# Altium integrated library Diode - Rectifier.IntLib: 777 symbols (part 6 of 12)
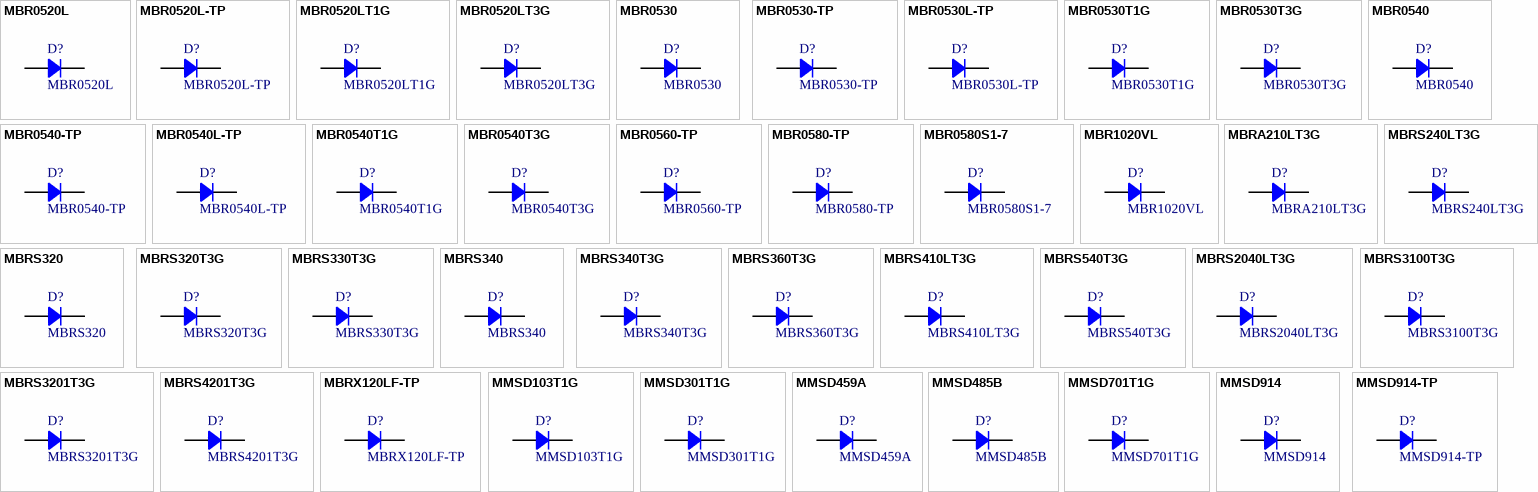
[diagram p24: symbols MBR0520L to MMSD914-TP]

## MBR0520LT1G
designator D?
DIODE SCHOTTKY 20V 500MA SOD123; Manufacturer: ON Semiconductor; Current Reverse Leakage @ Vr: 250uA @ 20V; Voltage Forward (Vf): 385mV @ 500mA; Part Number: MBR0520LT1G; PartId: 29341; Supplier 1: Digi-Key; Supplier Part Number 1: MBR0520LT1GOSCT-ND; ComponentLink1Description: Datasheet; ComponentLink1URL: http://www.onsemi.com/pub_link/Collateral/MBR0520LT1-D.PDF; ComponentLink2Description: Digi-Key Listing; ComponentLink2URL: https://www.digikey.com/product-detail/en/on-semiconductor/MBR0520LT1G/MBR0520LT1GOSCT-ND/917965; Junction Operating Temperature: -65C ~ 125C; Price: 0.33; Type: Schottky; Device Package: SOD-123; Voltage DC Reverse (Vr): 20V; Current Rectified: 500mA
footprint SOD-123
pins: 1, 2

## MBR0520LT3G
designator D?
DIODE SCHOTTKY 20V 500MA SOD123; Manufacturer: ON Semiconductor; Current Reverse Leakage @ Vr: 250uA @ 20V; Voltage Forward (Vf): 385mV @ 500mA; Part Number: MBR0520LT3G; PartId: 29364; Supplier 1: Digi-Key; Supplier Part Number 1: MBR0520LT3GOSCT-ND; ComponentLink1Description: Datasheet; ComponentLink1URL: http://www.onsemi.com/pub_link/Collateral/MBR0520LT1-D.PDF; ComponentLink2Description: Digi-Key Listing; ComponentLink2URL: https://www.digikey.com/product-detail/en/on-semiconductor/MBR0520LT3G/MBR0520LT3GOSCT-ND/2705022; Junction Operating Temperature: -65C ~ 125C; Price: 0.33; Type: Schottky; Device Package: SOD-123; Voltage DC Reverse (Vr): 20V; Current Rectified: 500mA
footprint SOD-123
pins: 1, 2

## MBR0530
designator D?
DIODE SCHOTTKY 30V 500MA SOD123; Manufacturer: Fairchild Semiconductor; Type: Surface Mount; Current Reverse Leakage @ Vr: 130uA @ 30V; Voltage Forward (Vf): 430mV @ 500mA; Part Number: MBR0530; PartId: 7121; Supplier 1: Digi-Key; Supplier Part Number 1: MBR0530TR-ND; ComponentLink1Description: Datasheet; ComponentLink1URL: http://www.fairchildsemi.com/datasheets/MB/MBR0530.pdf; ComponentLink2Description: Digi-Key Listing; ComponentLink2URL: http://www.digikey.ca/product-detail/en/MBR0530/MBR0530TR-ND/1048783; Junction Operating Temperature: -65C ~ 125C; Price: 0.0818; Device Package: SOD-123; Reverse Recovery Time (trr): -; Voltage DC Reverse (Vr): 30V; Current Rectified: 500mA
footprint SOD123F
pins: 1, 2

## MBR0530-TP
designator D?
DIODE SCHOTTKY 30V 500MA SOD123; Manufacturer: Micro Commercial Co; Current Reverse Leakage @ Vr: 200uA @ 30V; Voltage Forward (Vf): 550mV @ 500mA; Part Number: MBR0530-TP; PartId: 29376; Supplier 1: Digi-Key; Supplier Part Number 1: MBR0530TPMSCT-ND; ComponentLink1Description: Datasheet; ComponentLink1URL: http://www.mccsemi.com/up_pdf/MBR0520~MBR0580(SOD123).pdf; ComponentLink2Description: Digi-Key Listing; ComponentLink2URL: https://www.digikey.com/product-detail/en/micro-commercial-co/MBR0530-TP/MBR0530TPMSCT-ND/717366; Junction Operating Temperature: -65C ~ 125C; Price: 0.39; Type: Schottky; Device Package: SOD-123; Voltage DC Reverse (Vr): 30V; Current Rectified: 500mA
footprint SOD-123
pins: 1, 2

## MBR0530L-TP
designator D?
DIODE SCHOTTKY 30V 500MA SOD123; Manufacturer: Micro Commercial Co; Current Reverse Leakage @ Vr: 130uA @ 30V; Voltage Forward (Vf): 430mV @ 500mA; Part Number: MBR0530L-TP; PartId: 29379; Supplier 1: Digi-Key; Supplier Part Number 1: MBR0530L-TPMSCT-ND; ComponentLink1Description: Datasheet; ComponentLink1URL: http://www.mccsemi.com/up_pdf/MBR0520L~MBR0540L(SOD-123).pdf; ComponentLink2Description: Digi-Key Listing; ComponentLink2URL: https://www.digikey.com/product-detail/en/micro-commercial-co/MBR0530L-TP/MBR0530L-TPMSCT-ND/3191634; Junction Operating Temperature: -65C ~ 125C; Price: 0.39; Type: Schottky; Device Package: SOD-123; Voltage DC Reverse (Vr): 30V; Current Rectified: 500mA
footprint SOD-123
pins: 1, 2

## MBR0530T1G
designator D?
DIODE SCHOTTKY 30V 500MA SOD123; Manufacturer: ON Semiconductor; Current Reverse Leakage @ Vr: 130uA @ 30V; Voltage Forward (Vf): 430mV @ 500mA; Part Number: MBR0530T1G; PartId: 29347; Supplier 1: Digi-Key; Supplier Part Number 1: MBR0530T1GOSCT-ND; ComponentLink1Description: Datasheet; ComponentLink1URL: http://www.onsemi.com/pub_link/Collateral/MBR0530T1-D.PDF; ComponentLink2Description: Digi-Key Listing; ComponentLink2URL: https://www.digikey.com/product-detail/en/on-semiconductor/MBR0530T1G/MBR0530T1GOSCT-ND/917966; Junction Operating Temperature: -65C ~ 125C; Price: 0.36; Type: Schottky; Device Package: SOD-123; Voltage DC Reverse (Vr): 30V; Current Rectified: 500mA
footprint SOD-123
pins: 1, 2

## MBR0530T3G
designator D?
DIODE SCHOTTKY 30V 500MA SOD123; Manufacturer: ON Semiconductor; Current Reverse Leakage @ Vr: 130uA @ 30V; Voltage Forward (Vf): 430mV @ 500mA; Part Number: MBR0530T3G; PartId: 29423; Supplier 1: Digi-Key; Supplier Part Number 1: MBR0530T3GOSCT-ND; ComponentLink1Description: Datasheet; ComponentLink1URL: http://www.onsemi.com/pub_link/Collateral/MBR0530T1-D.PDF; ComponentLink2Description: Digi-Key Listing; ComponentLink2URL: https://www.digikey.com/product-detail/en/on-semiconductor/MBR0530T3G/MBR0530T3GOSCT-ND/2705023; Junction Operating Temperature: -65C ~ 125C; Price: 0.36; Type: Schottky; Device Package: SOD-123; Voltage DC Reverse (Vr): 30V; Current Rectified: 500mA
footprint SOD-123
pins: 1, 2

## MBR0540
designator D?
DIODE SCHOTTKY 40V 500MA SOD123; Manufacturer: Fairchild/ON Semiconductor; Current Reverse Leakage @ Vr: 20uA @ 40V; Voltage Forward (Vf): 510mV @ 500mA; Part Number: MBR0540; PartId: 29345; Supplier 1: Digi-Key; Supplier Part Number 1: MBR0540CT-ND; ComponentLink1Description: Datasheet; ComponentLink1URL: https://www.fairchildsemi.com/datasheets/MB/MBR0540.pdf; ComponentLink2Description: Digi-Key Listing; ComponentLink2URL: https://www.digikey.com/product-detail/en/fairchild-on-semiconductor/MBR0540/MBR0540CT-ND/3042807; Junction Operating Temperature: -65C ~ 125C; Price: 0.34; Type: Schottky; Device Package: SOD-123; Voltage DC Reverse (Vr): 40V; Current Rectified: 500mA
footprint SOD-123
pins: 1, 2

## MBR0540-TP
designator D?
DIODE SCHOTTKY 40V 500MA SOD123; Manufacturer: Micro Commercial Co; Current Reverse Leakage @ Vr: 200uA @ 40V; Voltage Forward (Vf): 550mV @ 500mA; Part Number: MBR0540-TP; PartId: 29434; Supplier 1: Digi-Key; Supplier Part Number 1: MBR0540TPMSCT-ND; ComponentLink1Description: Datasheet; ComponentLink1URL: http://www.mccsemi.com/up_pdf/MBR0520~MBR0580(SOD123).pdf; ComponentLink2Description: Digi-Key Listing; ComponentLink2URL: https://www.digikey.com/product-detail/en/micro-commercial-co/MBR0540-TP/MBR0540TPMSCT-ND/717367; Junction Operating Temperature: -55C ~ 150C; Price: 0.39; Type: Schottky; Device Package: SOD-123; Voltage DC Reverse (Vr): 40V; Current Rectified: 500mA
footprint SOD-123
pins: 1, 2

## MBR0540L-TP
designator D?
DIODE SCHOTTKY 40V 500MA SOD123; Manufacturer: Micro Commercial Co; Current Reverse Leakage @ Vr: 20uA @ 40V; Voltage Forward (Vf): 510mV @ 500mA; Part Number: MBR0540L-TP; PartId: 29382; Supplier 1: Digi-Key; Supplier Part Number 1: MBR0540L-TPMSCT-ND; ComponentLink1Description: Datasheet; ComponentLink1URL: http://www.mccsemi.com/up_pdf/MBR0520L~MBR0540L(SOD-123).pdf; ComponentLink2Description: Digi-Key Listing; ComponentLink2URL: https://www.digikey.com/product-detail/en/micro-commercial-co/MBR0540L-TP/MBR0540L-TPMSCT-ND/3191635; Junction Operating Temperature: -65C ~ 125C; Price: 0.39; Type: Schottky; Device Package: SOD-123; Voltage DC Reverse (Vr): 40V; Current Rectified: 500mA
footprint SOD-123
pins: 1, 2

## MBR0540T1G
designator D?
DIODE SCHOTTKY 40V 500MA SOD123; Manufacturer: ON Semiconductor; Current Reverse Leakage @ Vr: 20uA @ 40V; Voltage Forward (Vf): 510mV @ 500mA; Part Number: MBR0540T1G; PartId: 29346; Supplier 1: Digi-Key; Supplier Part Number 1: MBR0540T1GOSCT-ND; ComponentLink1Description: Datasheet; ComponentLink1URL: http://www.onsemi.com/pub_link/Collateral/MBR0540T1-D.PDF; ComponentLink2Description: Digi-Key Listing; ComponentLink2URL: https://www.digikey.com/product-detail/en/on-semiconductor/MBR0540T1G/MBR0540T1GOSCT-ND/917967; Junction Operating Temperature: -55C ~ 150C; Price: 0.36; Type: Schottky; Device Package: SOD-123; Voltage DC Reverse (Vr): 40V; Current Rectified: 500mA
footprint SOD-123
pins: 1, 2

## MBR0540T3G
designator D?
DIODE SCHOTTKY 40V 500MA SOD123; Manufacturer: ON Semiconductor; Current Reverse Leakage @ Vr: 20uA @ 40V; Voltage Forward (Vf): 510mV @ 500mA; Part Number: MBR0540T3G; PartId: 29369; Supplier 1: Digi-Key; Supplier Part Number 1: MBR0540T3GOSCT-ND; ComponentLink1Description: Datasheet; ComponentLink1URL: http://www.onsemi.com/pub_link/Collateral/MBR0540T1-D.PDF; ComponentLink2Description: Digi-Key Listing; ComponentLink2URL: https://www.digikey.com/product-detail/en/on-semiconductor/MBR0540T3G/MBR0540T3GOSCT-ND/2705024; Junction Operating Temperature: -55C ~ 150C; Price: 0.36; Type: Schottky; Device Package: SOD-123; Voltage DC Reverse (Vr): 40V; Current Rectified: 500mA
footprint SOD-123
pins: 1, 2

## MBR0560-TP
designator D?
DIODE SCHOTTKY 60V 500MA SOD123; Manufacturer: Micro Commercial Co; Current Reverse Leakage @ Vr: 200uA @ 60V; Voltage Forward (Vf): 700mV @ 500mA; Part Number: MBR0560-TP; PartId: 29344; Supplier 1: Digi-Key; Supplier Part Number 1: MBR0560TPMSCT-ND; ComponentLink1Description: Datasheet; ComponentLink1URL: http://www.mccsemi.com/up_pdf/MBR0520~MBR0580(SOD123).pdf; ComponentLink2Description: Digi-Key Listing; ComponentLink2URL: https://www.digikey.com/product-detail/en/micro-commercial-co/MBR0560-TP/MBR0560TPMSCT-ND/717368; Junction Operating Temperature: -55C ~ 150C; Price: 0.39; Type: Schottky; Device Package: SOD-123; Voltage DC Reverse (Vr): 60V; Current Rectified: 500mA
footprint SOD-123
pins: 1, 2

## MBR0580-TP
designator D?
DIODE SCHOTTKY 80V 500MA SOD123; Manufacturer: Micro Commercial Co; Current Reverse Leakage @ Vr: 200uA @ 80V; Voltage Forward (Vf): 800mV @ 500mA; Part Number: MBR0580-TP; PartId: 29378; Supplier 1: Digi-Key; Supplier Part Number 1: MBR0580-TPMSCT-ND; ComponentLink1Description: Datasheet; ComponentLink1URL: http://www.mccsemi.com/up_pdf/MBR0520~MBR0580(SOD123).pdf; ComponentLink2Description: Digi-Key Listing; ComponentLink2URL: https://www.digikey.com/product-detail/en/micro-commercial-co/MBR0580-TP/MBR0580-TPMSCT-ND/2423306; Junction Operating Temperature: -55C ~ 150C; Price: 0.39; Type: Schottky; Device Package: SOD-123; Voltage DC Reverse (Vr): 80V; Current Rectified: 500mA
footprint SOD-123
pins: 1, 2

## MBR0580S1-7
designator D?
DIODE SCHOTTKY 80V 500MA SOD123; Manufacturer: Diodes Incorporated; Current Reverse Leakage @ Vr: 5uA @ 80V; Voltage Forward (Vf): 800mV @ 500mA; Part Number: MBR0580S1-7; PartId: 14595; Supplier 1: Digi-Key; Supplier Part Number 1: MBR0580S1-7DITR-ND; ComponentLink1Description: Datasheet; ComponentLink1URL: http://diodes.com/_files/datasheets/MBR0580S1.pdf; ComponentLink2Description: Digi-Key Listing; ComponentLink2URL: https://www.digikey.com/product-detail/en/diodes-incorporated/MBR0580S1-7/MBR0580S1-7DITR-ND/5080335; Junction Operating Temperature: -55C ~ 175C; Price: 0.0483; Type: Schottky; Device Package: SOD-123; Voltage DC Reverse (Vr): 80V; Current Rectified: 500mA
footprint SOD-123
pins: 1, 2

## MBR1020VL
designator D?
DIODE SCHOTTKY 20V 1A SOD123F; Manufacturer: Fairchild/ON Semiconductor; Current Reverse Leakage @ Vr: 600uA @ 20V; Reverse Recovery Time (trr): 12.4ns; Voltage Forward (Vf): 340mV @ 1A; Part Number: MBR1020VL; PartId: 29254; Supplier 1: Digi-Key; Supplier Part Number 1: MBR1020VLCT-ND; ComponentLink1Description: Datasheet; ComponentLink1URL: https://www.fairchildsemi.com/datasheets/MB/MBR1020VL.pdf; ComponentLink2Description: Digi-Key Listing; ComponentLink2URL: https://www.digikey.com/product-detail/en/fairchild-on-semiconductor/MBR1020VL/MBR1020VLCT-ND/5305084; Junction Operating Temperature: -55C ~ 125C; Price: 0.33; Type: Schottky; Device Package: SOD-123F; Voltage DC Reverse (Vr): 20V; Current Rectified: 1A
footprint SOD123F
pins: 1, 2

## MBRA210LT3G
designator D?
DIODE SCHOTTKY 10V 2A SMA; Manufacturer: ON Semiconductor; Type: Surface Mount; Current Reverse Leakage @ Vr: 700uA @ 10V; Voltage Forward (Vf): 350mV @ 2A; Part Number: MBRA210LT3G; PartId: 7126; Supplier 1: Digi-Key; Supplier Part Number 1: MBRA210LT3GOSTR-ND; ComponentLink1Description: Datasheet; ComponentLink1URL: http://www.onsemi.com/pub_link/Collateral/MBRA210LT3-D.PDF; ComponentLink2Description: Digi-Key Listing; ComponentLink2URL: http://www.digikey.ca/product-detail/en/MBRA210LT3G/MBRA210LT3GOSTR-ND/918605; Junction Operating Temperature: -55C ~ 125C; Price: 0.2308; Device Package: DO-214AC, SMA; Reverse Recovery Time (trr): -; Voltage DC Reverse (Vr): 10V; Current Rectified: 2A
footprint DO214AC SMA
pins: 1, 2

## MBRS240LT3G
designator D?
DIODE SCHOTTKY 40V 2A SMB; Manufacturer: ON Semiconductor; Type: Surface Mount; Current Reverse Leakage @ Vr: 2mA @ 40V; Voltage Forward (Vf): 430mV @ 2A; Part Number: MBRS240LT3G; PartId: 7129; Supplier 1: Digi-Key; Supplier Part Number 1: MBRS240LT3GOSTR-ND; ComponentLink1Description: Datasheet; ComponentLink1URL: http://www.onsemi.com/pub_link/Collateral/MBRS240LT3-D.PDF; ComponentLink2Description: Digi-Key Listing; ComponentLink2URL: http://www.digikey.ca/product-detail/en/MBRS240LT3G/MBRS240LT3GOSTR-ND/918641; Junction Operating Temperature: -55C ~ 150C; Price: 0.1708; Device Package: DO-214AA, SMB; Reverse Recovery Time (trr): -; Voltage DC Reverse (Vr): 40V; Current Rectified: 2A
footprint DO214AA SMB
pins: 1, 2

## MBRS320
designator D?
DIODE SCHOTTKY 20V 4A SMC; Manufacturer: Fairchild/ON Semiconductor; Current Reverse Leakage @ Vr: 2mA @ 20V; Voltage Forward (Vf): 500mV @ 3A; Part Number: MBRS320; PartId: 27821; Supplier 1: Digi-Key; Supplier Part Number 1: MBRS320CT-ND; ComponentLink1Description: Datasheet; ComponentLink1URL: https://www.fairchildsemi.com/datasheets/MB/MBRS320.pdf; ComponentLink2Description: Digi-Key Listing; ComponentLink2URL: https://www.digikey.com/product-detail/en/fairchild-on-semiconductor/MBRS320/MBRS320CT-ND/3042646; Junction Operating Temperature: -65C ~ 125C; Price: 0.49; Type: Schottky; Device Package: DO-214AB, SMC; Voltage DC Reverse (Vr): 20V; Current Rectified: 4A
footprint ST DO214AB SMC
pins: 1, 2

## MBRS320T3G
designator D?
DIODE SCHOTTKY 20V 4A SMC; Manufacturer: ON Semiconductor; Current Reverse Leakage @ Vr: 2mA @ 20V; Voltage Forward (Vf): 500mV @ 3A; Part Number: MBRS320T3G; PartId: 27736; Supplier 1: Digi-Key; Supplier Part Number 1: MBRS320T3GOSCT-ND; ComponentLink1Description: Datasheet; ComponentLink1URL: http://www.onsemi.com/pub_link/Collateral/MBRS340T3-D.PDF; ComponentLink2Description: Digi-Key Listing; ComponentLink2URL: https://www.digikey.com/product-detail/en/on-semiconductor/MBRS320T3G/MBRS320T3GOSCT-ND/918007; Junction Operating Temperature: -65C ~ 150C; Price: 0.59; Type: Schottky; Device Package: DO-214AB, SMC; Voltage DC Reverse (Vr): 20V; Current Rectified: 4A
footprint ST DO214AB SMC
pins: 1, 2

## MBRS330T3G
designator D?
DIODE SCHOTTKY 30V 4A SMC; Manufacturer: ON Semiconductor; Current Reverse Leakage @ Vr: 2mA @ 30V; Voltage Forward (Vf): 500mV @ 3A; Part Number: MBRS330T3G; PartId: 27908; Supplier 1: Digi-Key; Supplier Part Number 1: MBRS330T3GOSCT-ND; ComponentLink1Description: Datasheet; ComponentLink1URL: http://www.onsemi.com/pub_link/Collateral/MBRS340T3-D.PDF; ComponentLink2Description: Digi-Key Listing; ComponentLink2URL: https://www.digikey.com/product-detail/en/on-semiconductor/MBRS330T3G/MBRS330T3GOSCT-ND/918008; Junction Operating Temperature: -65C ~ 150C; Price: 0.59; Type: Schottky; Device Package: DO-214AB, SMC; Voltage DC Reverse (Vr): 30V; Current Rectified: 4A
footprint ST DO214AB SMC
pins: 1, 2

## MBRS340
designator D?
DIODE SCHOTTKY 40V 4A SMC; Manufacturer: Fairchild/ON Semiconductor; Current Reverse Leakage @ Vr: 2mA @ 40V; Voltage Forward (Vf): 525mV @ 3A; Part Number: MBRS340; PartId: 27687; Supplier 1: Digi-Key; Supplier Part Number 1: MBRS340FSCT-ND; ComponentLink1Description: Datasheet; ComponentLink1URL: https://www.fairchildsemi.com/datasheets/MB/MBRS340.pdf; ComponentLink2Description: Digi-Key Listing; ComponentLink2URL: https://www.digikey.com/product-detail/en/fairchild-on-semiconductor/MBRS340/MBRS340FSCT-ND/965655; Junction Operating Temperature: -65C ~ 125C; Price: 0.56; Type: Schottky; Device Package: DO-214AB, SMC; Voltage DC Reverse (Vr): 40V; Current Rectified: 4A
footprint ST DO214AB SMC
pins: 1, 2

## MBRS340T3G
designator D?
DIODE SCHOTTKY 40V 4A SMC; Manufacturer: ON Semiconductor; Current Reverse Leakage @ Vr: 2mA @ 40V; Voltage Forward (Vf): 500mV @ 3A; Part Number: MBRS340T3G; PartId: 27683; Supplier 1: Digi-Key; Supplier Part Number 1: MBRS340T3GOSCT-ND; ComponentLink1Description: Datasheet; ComponentLink1URL: http://www.onsemi.com/pub_link/Collateral/MBRS340T3-D.PDF; ComponentLink2Description: Digi-Key Listing; ComponentLink2URL: https://www.digikey.com/product-detail/en/on-semiconductor/MBRS340T3G/MBRS340T3GOSCT-ND/918009; Junction Operating Temperature: -65C ~ 150C; Price: 0.44; Type: Schottky; Device Package: DO-214AB, SMC; Voltage DC Reverse (Vr): 40V; Current Rectified: 4A
footprint ST DO214AB SMC
pins: 1, 2

## MBRS360T3G
designator D?
DIODE SCHOTTKY 60V 3A SMC; Manufacturer: ON Semiconductor; Current Reverse Leakage @ Vr: 150uA @ 60V; Voltage Forward (Vf): 740mV @ 3A; Part Number: MBRS360T3G; PartId: 27828; Supplier 1: Digi-Key; Supplier Part Number 1: MBRS360T3GOSCT-ND; ComponentLink1Description: Datasheet; ComponentLink1URL: http://www.onsemi.com/pub_link/Collateral/MBRS360T3-D.PDF; ComponentLink2Description: Digi-Key Listing; ComponentLink2URL: https://www.digikey.com/product-detail/en/on-semiconductor/MBRS360T3G/MBRS360T3GOSCT-ND/918010; Junction Operating Temperature: -65C ~ 175C; Price: 0.49; Type: Schottky; Device Package: DO-214AB, SMC; Voltage DC Reverse (Vr): 60V; Current Rectified: 3A
footprint ST DO214AB SMC
pins: 1, 2

## MBRS410LT3G
designator D?
DIODE SCHOTTKY 10V 4A SMC; Manufacturer: ON Semiconductor; Type: Surface Mount; Current Reverse Leakage @ Vr: 5mA @ 10V; Voltage Forward (Vf): 330mV @ 4A; Part Number: MBRS410LT3G; PartId: 7125; Supplier 1: Digi-Key; Supplier Part Number 1: MBRS410LT3GOSTR-ND; ComponentLink1Description: Datasheet; ComponentLink1URL: http://www.onsemi.com/pub_link/Collateral/MBRS410LT3-D.PDF; ComponentLink2Description: Digi-Key Listing; ComponentLink2URL: http://www.digikey.ca/product-detail/en/MBRS410LT3G/MBRS410LT3GOSTR-ND/920615; Junction Operating Temperature: -65C ~ 125C; Price: 0.9355; Device Package: DO-214AB, SMC; Reverse Recovery Time (trr): -; Voltage DC Reverse (Vr): 10V; Current Rectified: 4A
footprint DO214AB SMC
pins: 1, 2

## MBRS540T3G
designator D?
DIODE SCHOTTKY 40V 5A SMC; Manufacturer: ON Semiconductor; Current Reverse Leakage @ Vr: 300uA @ 40V; Voltage Forward (Vf): 500mV @ 5A; Part Number: MBRS540T3G; PartId: 27689; Supplier 1: Digi-Key; Supplier Part Number 1: MBRS540T3GOSCT-ND; ComponentLink1Description: Datasheet; ComponentLink1URL: http://www.onsemi.com/pub_link/Collateral/MBRS540T3-D.PDF; ComponentLink2Description: Digi-Key Listing; ComponentLink2URL: https://www.digikey.com/product-detail/en/on-semiconductor/MBRS540T3G/MBRS540T3GOSCT-ND/918011; Junction Operating Temperature: -65C ~ 150C; Price: 0.64; Type: Schottky; Device Package: DO-214AB, SMC; Voltage DC Reverse (Vr): 40V; Current Rectified: 5A
footprint ST DO214AB SMC
pins: 1, 2

## MBRS2040LT3G
designator D?
DIODE SCHOTTKY 40V 2A SMB; Manufacturer: ON Semiconductor; Type: Surface Mount; Current Reverse Leakage @ Vr: 800uA @ 40V; Voltage Forward (Vf): 430mV @ 2A; Part Number: MBRS2040LT3G; PartId: 7130; Supplier 1: Digi-Key; Supplier Part Number 1: MBRS2040LT3GOSTR-ND; ComponentLink1Description: Datasheet; ComponentLink1URL: http://www.onsemi.com/pub_link/Collateral/MBRS2040LT3-D.PDF; ComponentLink2Description: Digi-Key Listing; ComponentLink2URL: http://www.digikey.ca/product-detail/en/MBRS2040LT3G/MBRS2040LT3GOSTR-ND/918640; Junction Operating Temperature: -55C ~ 125C; Price: 0.1708; Device Package: DO-214AA, SMB; Reverse Recovery Time (trr): -; Voltage DC Reverse (Vr): 40V; Current Rectified: 2A
footprint DO214AA SMB
pins: 1, 2

## MBRS3100T3G
designator D?
DIODE SCHOTTKY 100V 3A SMC; Manufacturer: ON Semiconductor; Current Reverse Leakage @ Vr: 50uA @ 100V; Voltage Forward (Vf): 790mV @ 3A; Part Number: MBRS3100T3G; PartId: 27702; Supplier 1: Digi-Key; Supplier Part Number 1: MBRS3100T3GOSCT-ND; ComponentLink1Description: Datasheet; ComponentLink1URL: http://www.onsemi.com/pub_link/Collateral/MBRS3100T3-D.PDF; ComponentLink2Description: Digi-Key Listing; ComponentLink2URL: https://www.digikey.com/product-detail/en/on-semiconductor/MBRS3100T3G/MBRS3100T3GOSCT-ND/918006; Junction Operating Temperature: -65C ~ 175C; Price: 0.74; Type: Schottky; Device Package: DO-214AB, SMC; Voltage DC Reverse (Vr): 100V; Current Rectified: 3A
footprint ST DO214AB SMC
pins: 1, 2

## MBRS3201T3G
designator D?
DIODE SCHOTTKY 200V 3A SMC; Manufacturer: ON Semiconductor; Current Reverse Leakage @ Vr: 1mA @ 200V; Reverse Recovery Time (trr): 35ns; Voltage Forward (Vf): 840mV @ 3A; Part Number: MBRS3201T3G; PartId: 27869; Supplier 1: Digi-Key; Supplier Part Number 1: MBRS3201T3GOSCT-ND; ComponentLink1Description: Datasheet; ComponentLink1URL: http://www.onsemi.com/pub_link/Collateral/MBRS3201T3-D.PDF; ComponentLink2Description: Digi-Key Listing; ComponentLink2URL: https://www.digikey.com/product-detail/en/on-semiconductor/MBRS3201T3G/MBRS3201T3GOSCT-ND/1967072; Junction Operating Temperature: -55C ~ 150C; Price: 0.87; Type: Schottky; Device Package: DO-214AB, SMC; Voltage DC Reverse (Vr): 200V; Current Rectified: 3A
footprint ST DO214AB SMC
pins: 1, 2

## MBRS4201T3G
designator D?
DIODE SCHOTTKY 200V 4A SMC; Manufacturer: ON Semiconductor; Current Reverse Leakage @ Vr: 1mA @ 200V; Reverse Recovery Time (trr): 35ns; Voltage Forward (Vf): 860mV @ 4A; Part Number: MBRS4201T3G; PartId: 27879; Supplier 1: Digi-Key; Supplier Part Number 1: MBRS4201T3GOSCT-ND; ComponentLink1Description: Datasheet; ComponentLink1URL: http://www.onsemi.com/pub_link/Collateral/MBRS4201T3-D.PDF; ComponentLink2Description: Digi-Key Listing; ComponentLink2URL: https://www.digikey.com/product-detail/en/on-semiconductor/MBRS4201T3G/MBRS4201T3GOSCT-ND/1967074; Junction Operating Temperature: -55C ~ 150C; Price: 1.09; Type: Schottky; Device Package: DO-214AB, SMC; Voltage DC Reverse (Vr): 200V; Current Rectified: 4A
footprint ST DO214AB SMC
pins: 1, 2

## MBRX120LF-TP
designator D?
DIODE SCHOTTKY 20V 1A SOD123; Manufacturer: Micro Commercial Co; Current Reverse Leakage @ Vr: 1mA @ 20V; Voltage Forward (Vf): 360mV @ 1A; Part Number: MBRX120LF-TP; PartId: 29350; Supplier 1: Digi-Key; Supplier Part Number 1: MBRX120LF-TPMSCT-ND; ComponentLink1Description: Datasheet; ComponentLink1URL: http://www.mccsemi.com/up_pdf/MBRX120LF(SOD-123).pdf; ComponentLink2Description: Digi-Key Listing; ComponentLink2URL: https://www.digikey.com/product-detail/en/micro-commercial-co/MBRX120LF-TP/MBRX120LF-TPMSCT-ND/2041570; Junction Operating Temperature: -65C ~ 125C; Price: 0.49; Type: Schottky; Device Package: SOD-123; Voltage DC Reverse (Vr): 20V; Current Rectified: 1A
footprint SOD-123
pins: 1, 2

## MMSD103T1G
designator D?
DIODE GEN PURP 250V 200MA SOD123; Manufacturer: ON Semiconductor; Type: Standard; Current Reverse Leakage @ Vr: 1uA @ 200V; Reverse Recovery Time (trr): 50ns; Current Rectified: 200mA (DC); Voltage Forward (Vf): 1.25V @ 200mA; Part Number: MMSD103T1G; PartId: 29362; Supplier 1: Digi-Key; Supplier Part Number 1: MMSD103T1GOSCT-ND; ComponentLink1Description: Datasheet; ComponentLink1URL: http://www.onsemi.com/pub_link/Collateral/MMSD103T1-D.PDF; ComponentLink2Description: Digi-Key Listing; ComponentLink2URL: https://www.digikey.com/product-detail/en/on-semiconductor/MMSD103T1G/MMSD103T1GOSCT-ND/1967160; Junction Operating Temperature: -55C ~ 150C; Price: 0.2; Device Package: SOD-123; Voltage DC Reverse (Vr): 250V
footprint SOD-123
pins: 1, 2

## MMSD301T1G
designator D?
DIODE SCHOTTKY 30V 200MA SOD123; Manufacturer: ON Semiconductor; Current Reverse Leakage @ Vr: 200nA @ 25V; Current Rectified: 200mA (DC); Voltage Forward (Vf): 600mV @ 10mA; Part Number: MMSD301T1G; PartId: 29388; Supplier 1: Digi-Key; Supplier Part Number 1: MMSD301T1GOSCT-ND; ComponentLink1Description: Datasheet; ComponentLink1URL: http://www.onsemi.com/pub_link/Collateral/MMSD301T1-D.PDF; ComponentLink2Description: Digi-Key Listing; ComponentLink2URL: https://www.digikey.com/product-detail/en/on-semiconductor/MMSD301T1G/MMSD301T1GOSCT-ND/919704; Junction Operating Temperature: -55C ~ 125C; Price: 0.39; Type: Schottky; Device Package: SOD-123; Voltage DC Reverse (Vr): 30V
footprint SOD-123
pins: 1, 2

## MMSD459A
designator D?
DIODE GEN PURP SOD123; Manufacturer: Fairchild/ON Semiconductor; Type: Standard; Part Number: MMSD459A; PartId: 29419; Supplier 1: Digi-Key; Supplier Part Number 1: MMSD459ACT-ND; ComponentLink1Description: Datasheet; ComponentLink2Description: Digi-Key Listing; ComponentLink2URL: https://www.digikey.com/product-detail/en/fairchild-on-semiconductor/MMSD459A/MMSD459ACT-ND/4744500; Junction Operating Temperature: 150C (Max); Price: 0.33; Device Package: SOD-123
footprint SOD-123
pins: 1, 2

## MMSD485B
designator D?
DIODE GEN PURP SOD123; Manufacturer: Fairchild/ON Semiconductor; Type: Standard; Part Number: MMSD485B; PartId: 29421; Supplier 1: Digi-Key; Supplier Part Number 1: MMSD485BCT-ND; ComponentLink1Description: Datasheet; ComponentLink2Description: Digi-Key Listing; ComponentLink2URL: https://www.digikey.com/product-detail/en/fairchild-on-semiconductor/MMSD485B/MMSD485BCT-ND/4744501; Junction Operating Temperature: 150C (Max); Price: 0.35; Device Package: SOD-123
footprint SOD-123
pins: 1, 2

## MMSD701T1G
designator D?
DIODE SCHOTTKY 70V 200MA SOD123; Manufacturer: ON Semiconductor; Current Reverse Leakage @ Vr: 200nA @ 35V; Current Rectified: 200mA (DC); Voltage Forward (Vf): 1V @ 10mA; Part Number: MMSD701T1G; PartId: 29428; Supplier 1: Digi-Key; Supplier Part Number 1: MMSD701T1GOSCT-ND; ComponentLink1Description: Datasheet; ComponentLink1URL: http://www.onsemi.com/pub_link/Collateral/MMSD301T1-D.PDF; ComponentLink2Description: Digi-Key Listing; ComponentLink2URL: https://www.digikey.com/product-detail/en/on-semiconductor/MMSD701T1G/MMSD701T1GOSCT-ND/2121104; Junction Operating Temperature: -55C ~ 125C; Price: 0.39; Type: Schottky; Device Package: SOD-123; Voltage DC Reverse (Vr): 70V
footprint SOD-123
pins: 1, 2

## MMSD914
designator D?
DIODE GEN PURP 100V 200MA SOD123; Manufacturer: Fairchild/ON Semiconductor; Type: Standard; Current Reverse Leakage @ Vr: 5uA @ 75V; Reverse Recovery Time (trr): 4ns; Voltage Forward (Vf): 1V @ 10mA; Part Number: MMSD914; PartId: 29366; Supplier 1: Digi-Key; Supplier Part Number 1: MMSD914CT-ND; ComponentLink1Description: Datasheet; ComponentLink1URL: https://www.fairchildsemi.com/datasheets/MM/MMSD914.pdf; ComponentLink2Description: Digi-Key Listing; ComponentLink2URL: https://www.digikey.com/product-detail/en/fairchild-on-semiconductor/MMSD914/MMSD914CT-ND/3042830; Junction Operating Temperature: 150C (Max); Price: 0.26; Device Package: SOD-123; Voltage DC Reverse (Vr): 100V; Current Rectified: 200mA
footprint SOD-123
pins: 1, 2

## MMSD914-TP
designator D?
DIODE GEN PURP 75V 200MA SOD123; Manufacturer: Micro Commercial Co; Type: Standard; Current Reverse Leakage @ Vr: 5uA @ 75V; Reverse Recovery Time (trr): 4ns; Voltage Forward (Vf): 1V @ 10mA; Part Number: MMSD914-TP; PartId: 29416; Supplier 1: Digi-Key; Supplier Part Number 1: MMSD914-TPMSCT-ND; ComponentLink1Description: Datasheet; ComponentLink1URL: http://www.mccsemi.com/up_pdf/MMSD914(SOD-123).pdf; ComponentLink2Description: Digi-Key Listing; ComponentLink2URL: https://www.digikey.com/product-detail/en/micro-commercial-co/MMSD914-TP/MMSD914-TPMSCT-ND/2345696; Junction Operating Temperature: -55C ~ 150C; Price: 0.21; Device Package: SOD-123; Voltage DC Reverse (Vr): 75V; Current Rectified: 200mA
footprint SOD-123
pins: 1, 2

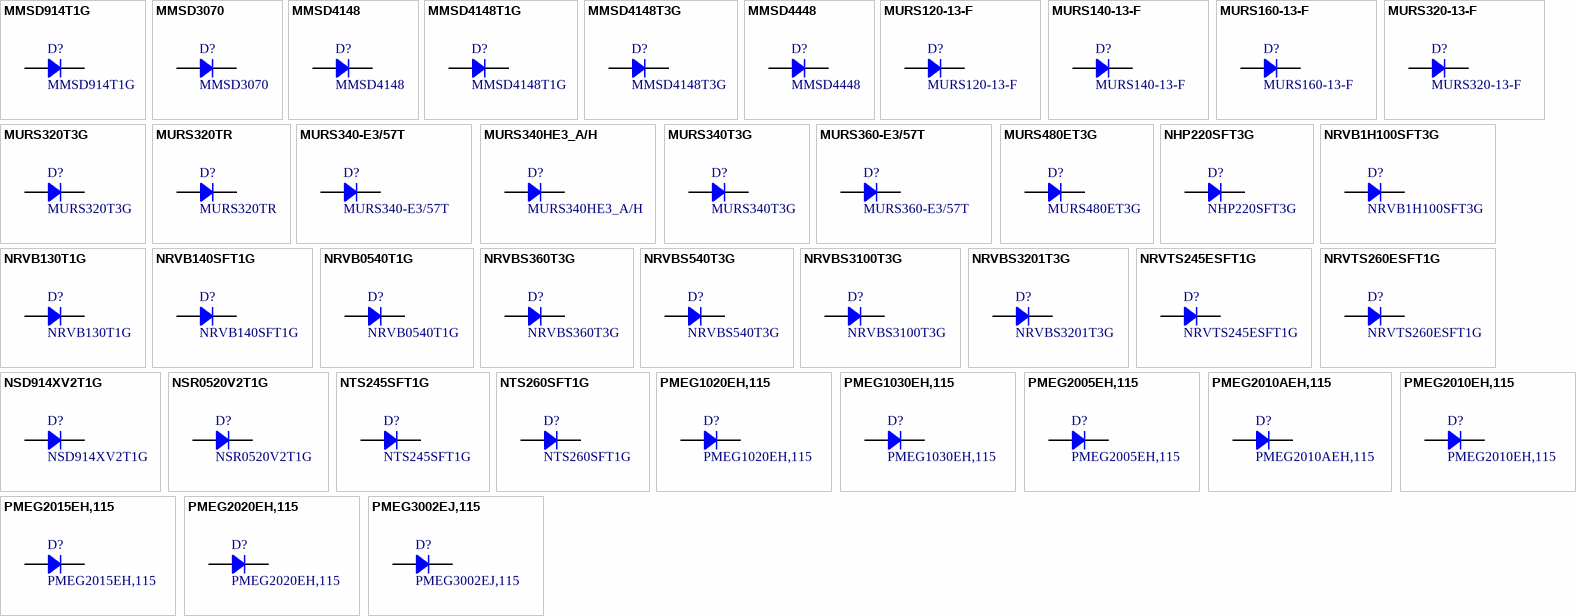
[diagram p9: symbols MMSD914T1G to PMEG3002EJ,115]

## MMSD914T1G
designator D?
DIODE GEN PURP 100V 200MA SOD123; Manufacturer: ON Semiconductor; Type: Standard; Current Reverse Leakage @ Vr: 5uA @ 75V; Reverse Recovery Time (trr): 4ns; Current Rectified: 200mA (DC); Voltage Forward (Vf): 1V @ 10mA; Part Number: MMSD914T1G; PartId: 29360; Supplier 1: Digi-Key; Supplier Part Number 1: MMSD914T1GOSCT-ND; ComponentLink1Description: Datasheet; ComponentLink1URL: http://www.onsemi.com/pub_link/Collateral/MMSD914T1-D.PDF; ComponentLink2Description: Digi-Key Listing; ComponentLink2URL: https://www.digikey.com/product-detail/en/on-semiconductor/MMSD914T1G/MMSD914T1GOSCT-ND/1139868; Junction Operating Temperature: -55C ~ 150C; Price: 0.21; Device Package: SOD-123; Voltage DC Reverse (Vr): 100V
footprint SOD-123
pins: 1, 2

## MMSD3070
designator D?
DIODE GEN PURP 200V 200MA SOD123; Manufacturer: Fairchild/ON Semiconductor; Type: Standard; Current Reverse Leakage @ Vr: 100nA @ 175V; Reverse Recovery Time (trr): 50ns; Voltage Forward (Vf): 1V @ 100mA; Part Number: MMSD3070; PartId: 29401; Supplier 1: Digi-Key; Supplier Part Number 1: MMSD3070CT-ND; ComponentLink1Description: Datasheet; ComponentLink1URL: https://www.fairchildsemi.com/datasheets/MM/MMSD3070.pdf; ComponentLink2Description: Digi-Key Listing; ComponentLink2URL: https://www.digikey.com/product-detail/en/fairchild-on-semiconductor/MMSD3070/MMSD3070CT-ND/3504500; Junction Operating Temperature: 150C (Max); Price: 0.34; Device Package: SOD-123; Voltage DC Reverse (Vr): 200V; Current Rectified: 200mA
footprint SOD-123
pins: 1, 2

## MMSD4148
designator D?
DIODE GEN PURP 100V 200MA SOD123; Manufacturer: Fairchild/ON Semiconductor; Type: Standard; Current Reverse Leakage @ Vr: 5uA @ 75V; Reverse Recovery Time (trr): 4ns; Voltage Forward (Vf): 1V @ 10mA; Part Number: MMSD4148; PartId: 29365; Supplier 1: Digi-Key; Supplier Part Number 1: MMSD4148CT-ND; ComponentLink1Description: Datasheet; ComponentLink1URL: https://www.fairchildsemi.com/datasheets/MM/MMSD4148.pdf; ComponentLink2Description: Digi-Key Listing; ComponentLink2URL: https://www.digikey.com/product-detail/en/fairchild-on-semiconductor/MMSD4148/MMSD4148CT-ND/3042829; Junction Operating Temperature: 150C (Max); Price: 0.26; Device Package: SOD-123; Voltage DC Reverse (Vr): 100V; Current Rectified: 200mA
footprint SOD-123
pins: 1, 2

## MMSD4148T1G
designator D?
DIODE GEN PURP 100V 200MA SOD123; Manufacturer: ON Semiconductor; Type: Standard; Current Reverse Leakage @ Vr: 5uA @ 75V; Reverse Recovery Time (trr): 4ns; Current Rectified: 200mA (DC); Voltage Forward (Vf): 1V @ 10mA; Part Number: MMSD4148T1G; PartId: 29340; Supplier 1: Digi-Key; Supplier Part Number 1: MMSD4148T1GOSCT-ND; ComponentLink1Description: Datasheet; ComponentLink1URL: http://www.onsemi.com/pub_link/Collateral/MMSD4148T1-D.PDF; ComponentLink2Description: Digi-Key Listing; ComponentLink2URL: https://www.digikey.com/product-detail/en/on-semiconductor/MMSD4148T1G/MMSD4148T1GOSCT-ND/1121611; Junction Operating Temperature: -55C ~ 150C; Price: 0.21; Device Package: SOD-123; Voltage DC Reverse (Vr): 100V
footprint SOD-123
pins: 1, 2

## MMSD4148T3G
designator D?
DIODE GEN PURP 100V 200MA SOD123; Manufacturer: ON Semiconductor; Type: Standard; Current Reverse Leakage @ Vr: 5uA @ 75V; Reverse Recovery Time (trr): 4ns; Current Rectified: 200mA (DC); Voltage Forward (Vf): 1V @ 10mA; Part Number: MMSD4148T3G; PartId: 29354; Supplier 1: Digi-Key; Supplier Part Number 1: MMSD4148T3GOSCT-ND; ComponentLink1Description: Datasheet; ComponentLink1URL: http://www.onsemi.com/pub_link/Collateral/MMSD4148T1-D.PDF; ComponentLink2Description: Digi-Key Listing; ComponentLink2URL: https://www.digikey.com/product-detail/en/on-semiconductor/MMSD4148T3G/MMSD4148T3GOSCT-ND/1967161; Junction Operating Temperature: -55C ~ 150C; Price: 0.21; Device Package: SOD-123; Voltage DC Reverse (Vr): 100V
footprint SOD-123
pins: 1, 2

## MMSD4448
designator D?
DIODE GEN PURP 100V 200MA SOD123; Manufacturer: Fairchild/ON Semiconductor; Type: Standard; Current Reverse Leakage @ Vr: 5uA @ 75V; Reverse Recovery Time (trr): 4ns; Voltage Forward (Vf): 1V @ 100mA; Part Number: MMSD4448; PartId: 29367; Supplier 1: Digi-Key; Supplier Part Number 1: MMSD4448CT-ND; ComponentLink1Description: Datasheet; ComponentLink1URL: https://www.fairchildsemi.com/datasheets/MM/MMSD4448.pdf; ComponentLink2Description: Digi-Key Listing; ComponentLink2URL: https://www.digikey.com/product-detail/en/fairchild-on-semiconductor/MMSD4448/MMSD4448CT-ND/3504484; Junction Operating Temperature: 150C (Max); Price: 0.26; Device Package: SOD-123; Voltage DC Reverse (Vr): 100V; Current Rectified: 200mA
footprint SOD-123
pins: 1, 2

## MURS120-13-F
designator D?
DIODE GEN PURP 200V 1A SMB; Manufacturer: Diodes Incorporated; Type: Standard; Current Reverse Leakage @ Vr: 2uA @ 200V; Reverse Recovery Time (trr): 25ns; Voltage Forward (Vf): 875mV @ 1A; Part Number: MURS120-13-F; PartId: 16279; Supplier 1: Digi-Key; Supplier Part Number 1: MURS120-FDITR-ND; ComponentLink1Description: Datasheet; ComponentLink1URL: http://www.diodes.com/_files/datasheets/ds30179.pdf; ComponentLink2Description: Digi-Key Listing; ComponentLink2URL: https://www.digikey.com/product-detail/en/diodes-incorporated/MURS120-13-F/MURS120-FDITR-ND/814440; Junction Operating Temperature: -55C ~ 175C; Price: 0.099; Device Package: DO-214AA, SMB; Voltage DC Reverse (Vr): 200V; Current Rectified: 1A
footprint DO214AA SMB
pins: 1, 2

## MURS140-13-F
designator D?
DIODE GEN PURP 400V 1A SMB; Manufacturer: Diodes Incorporated; Type: Standard; Current Reverse Leakage @ Vr: 5uA @ 400V; Reverse Recovery Time (trr): 50ns; Voltage Forward (Vf): 1.25V @ 1A; Part Number: MURS140-13-F; PartId: 16278; Supplier 1: Digi-Key; Supplier Part Number 1: MURS140-FDITR-ND; ComponentLink1Description: Datasheet; ComponentLink1URL: http://www.diodes.com/_files/datasheets/ds30130.pdf; ComponentLink2Description: Digi-Key Listing; ComponentLink2URL: https://www.digikey.com/product-detail/en/diodes-incorporated/MURS140-13-F/MURS140-FDITR-ND/814447; Junction Operating Temperature: -55C ~ 175C; Price: 0.099; Device Package: DO-214AA, SMB; Voltage DC Reverse (Vr): 400V; Current Rectified: 1A
footprint DO214AA SMB
pins: 1, 2

## MURS160-13-F
designator D?
DIODE GEN PURP 600V 1A SMB; Manufacturer: Diodes Incorporated; Type: Standard; Current Reverse Leakage @ Vr: 5uA @ 600V; Reverse Recovery Time (trr): 50ns; Voltage Forward (Vf): 1.25V @ 1A; Part Number: MURS160-13-F; PartId: 16245; Supplier 1: Digi-Key; Supplier Part Number 1: MURS160-FDITR-ND; ComponentLink1Description: Datasheet; ComponentLink1URL: http://www.diodes.com/_files/datasheets/ds30130.pdf; ComponentLink2Description: Digi-Key Listing; ComponentLink2URL: https://www.digikey.com/product-detail/en/diodes-incorporated/MURS160-13-F/MURS160-FDITR-ND/814446; Junction Operating Temperature: -55C ~ 175C; Price: 0.1072; Device Package: DO-214AA, SMB; Voltage DC Reverse (Vr): 600V; Current Rectified: 1A
footprint DO214AA SMB
pins: 1, 2

## MURS320-13-F
designator D?
DIODE GEN PURP 200V 3A SMC; Manufacturer: Diodes Incorporated; Type: Standard; Current Reverse Leakage @ Vr: 5uA @ 200V; Reverse Recovery Time (trr): 25ns; Voltage Forward (Vf): 875mV @ 3A; Part Number: MURS320-13-F; PartId: 16203; Supplier 1: Digi-Key; Supplier Part Number 1: MURS320-13FDITR-ND; ComponentLink1Description: Datasheet; ComponentLink1URL: http://www.diodes.com/_files/datasheets/ds30197.pdf; ComponentLink2Description: Digi-Key Listing; ComponentLink2URL: https://www.digikey.com/product-detail/en/diodes-incorporated/MURS320-13-F/MURS320-13FDITR-ND/1934183; Junction Operating Temperature: -65C ~ 175C; Price: 0.186; Device Package: DO-214AB, SMC; Voltage DC Reverse (Vr): 200V; Current Rectified: 3A
footprint DO214AB SMC
pins: 1, 2

## MURS320T3G
designator D?
DIODE GEN PURP 200V 3A SMC; Manufacturer: ON Semiconductor; Type: Standard; Current Reverse Leakage @ Vr: 5uA @ 200V; Reverse Recovery Time (trr): 35ns; Voltage Forward (Vf): 875mV @ 3A; Part Number: MURS320T3G; PartId: 27688; Supplier 1: Digi-Key; Supplier Part Number 1: MURS320T3GOSCT-ND; ComponentLink1Description: Datasheet; ComponentLink1URL: http://www.onsemi.com/pub_link/Collateral/MURS320T3-D.PDF; ComponentLink2Description: Digi-Key Listing; ComponentLink2URL: https://www.digikey.com/product-detail/en/on-semiconductor/MURS320T3G/MURS320T3GOSCT-ND/964579; Junction Operating Temperature: -65C ~ 175C; Price: 0.61; Device Package: DO-214AB, SMC; Voltage DC Reverse (Vr): 200V; Current Rectified: 3A
footprint ST DO214AB SMC
pins: 1, 2

## MURS320TR
designator D?
DIODE GEN PURP 200V 3A SMC; Manufacturer: SMC Diode Solutions; Type: Standard; Current Reverse Leakage @ Vr: 5uA @ 200V; Reverse Recovery Time (trr): 35ns; Voltage Forward (Vf): 900mV @ 3A; Part Number: MURS320TR; PartId: 27814; Supplier 1: Digi-Key; Supplier Part Number 1: 1655-1493-1-ND; ComponentLink1Description: Datasheet; ComponentLink1URL: http://www.smc-diodes.com/propdf/MURS320%20N0162%20REV.A.pdf; ComponentLink2Description: Digi-Key Listing; ComponentLink2URL: https://www.digikey.com/product-detail/en/smc-diode-solutions/MURS320TR/1655-1493-1-ND/6022938; Junction Operating Temperature: -65C ~ 175C; Price: 0.43; Device Package: DO-214AB, SMC; Voltage DC Reverse (Vr): 200V; Current Rectified: 3A
footprint ST DO214AB SMC
pins: 1, 2

## MURS340-E3/57T
designator D?
DIODE GEN PURP 400V 3A DO214AB; Manufacturer: Vishay Semiconductor Diodes Division; Type: Standard; Current Reverse Leakage @ Vr: 10uA @ 400V; Reverse Recovery Time (trr): 75ns; Voltage Forward (Vf): 1.25V @ 3A; Part Number: MURS340-E3/57T; PartId: 27903; Supplier 1: Digi-Key; Supplier Part Number 1: MURS340-E3/57TGICT-ND; ComponentLink1Description: Datasheet; ComponentLink1URL: http://www.vishay.com/docs/88816/murs340.pdf; ComponentLink2Description: Digi-Key Listing; ComponentLink2URL: https://www.digikey.com/product-detail/en/vishay-semiconductor-diodes-division/MURS340-E3-57T/MURS340-E3-57TGICT-ND/1091585; Junction Operating Temperature: -65C ~ 175C; Price: 0.69; Device Package: DO-214AB, SMC; Voltage DC Reverse (Vr): 400V; Current Rectified: 3A
footprint ST DO214AB SMC
pins: 1, 2

## MURS340HE3_A/H
designator D?
DIODE GEN PURP 400V 4A DO214AB; Manufacturer: Vishay Semiconductor Diodes Division; Type: Standard; Current Reverse Leakage @ Vr: 10uA @ 400V; Reverse Recovery Time (trr): 75ns; Voltage Forward (Vf): 1.28V @ 4A; Part Number: MURS340HE3_A/H; PartId: 27787; Supplier 1: Digi-Key; Supplier Part Number 1: MURS340HE3_A/HGICT-ND; ComponentLink1Description: Datasheet; ComponentLink1URL: http://www.vishay.com/docs/88816/murs340.pdf; ComponentLink2Description: Digi-Key Listing; ComponentLink2URL: https://www.digikey.com/product-detail/en/vishay-semiconductor-diodes-division/MURS340HE3_A-H/MURS340HE3_A-HGICT-ND/4743573; Junction Operating Temperature: -65C ~ 175C; Price: 0.69; Device Package: DO-214AB, SMC; Voltage DC Reverse (Vr): 400V; Current Rectified: 4A
footprint ST DO214AB SMC
pins: 1, 2

## MURS340T3G
designator D?
DIODE GEN PURP 400V 3A SMC; Manufacturer: ON Semiconductor; Type: Standard; Current Reverse Leakage @ Vr: 10uA @ 400V; Reverse Recovery Time (trr): 75ns; Voltage Forward (Vf): 1.25V @ 3A; Part Number: MURS340T3G; PartId: 27695; Supplier 1: Digi-Key; Supplier Part Number 1: MURS340T3GOSCT-ND; ComponentLink1Description: Datasheet; ComponentLink1URL: http://www.onsemi.com/pub_link/Collateral/MURS320T3-D.PDF; ComponentLink2Description: Digi-Key Listing; ComponentLink2URL: https://www.digikey.com/product-detail/en/on-semiconductor/MURS340T3G/MURS340T3GOSCT-ND/1139956; Junction Operating Temperature: -65C ~ 175C; Price: 0.65; Device Package: DO-214AB, SMC; Voltage DC Reverse (Vr): 400V; Current Rectified: 3A
footprint ST DO214AB SMC
pins: 1, 2

## MURS360-E3/57T
designator D?
DIODE GEN PURP 600V 3A DO214AB; Manufacturer: Vishay Semiconductor Diodes Division; Type: Standard; Current Reverse Leakage @ Vr: 10uA @ 600V; Reverse Recovery Time (trr): 75ns; Voltage Forward (Vf): 1.25V @ 3A; Part Number: MURS360-E3/57T; PartId: 27904; Supplier 1: Digi-Key; Supplier Part Number 1: MURS360-E3/57TGICT-ND; ComponentLink1Description: Datasheet; ComponentLink1URL: http://www.vishay.com/docs/88816/murs340.pdf; ComponentLink2Description: Digi-Key Listing; ComponentLink2URL: https://www.digikey.com/product-detail/en/vishay-semiconductor-diodes-division/MURS360-E3-57T/MURS360-E3-57TGICT-ND/1091586; Junction Operating Temperature: -65C ~ 175C; Price: 0.69; Device Package: DO-214AB, SMC; Voltage DC Reverse (Vr): 600V; Current Rectified: 3A
footprint ST DO214AB SMC
pins: 1, 2

## MURS480ET3G
designator D?
DIODE GEN PURP 800V 4A SMC; Manufacturer: ON Semiconductor; Type: Standard; Current Reverse Leakage @ Vr: 25uA @ 800V; Reverse Recovery Time (trr): 100ns; Voltage Forward (Vf): 1.85V @ 4A; Part Number: MURS480ET3G; PartId: 27708; Supplier 1: Digi-Key; Supplier Part Number 1: MURS480ET3GOSCT-ND; ComponentLink1Description: Datasheet; ComponentLink1URL: http://www.onsemi.com/pub_link/Collateral/MURS480E.PDF; ComponentLink2Description: Digi-Key Listing; ComponentLink2URL: https://www.digikey.com/product-detail/en/on-semiconductor/MURS480ET3G/MURS480ET3GOSCT-ND/3462382; Junction Operating Temperature: -65C ~ 175C; Price: 0.98; Device Package: DO-214AB, SMC; Voltage DC Reverse (Vr): 800V; Current Rectified: 4A
footprint ST DO214AB SMC
pins: 1, 2

## NHP220SFT3G
designator D?
IGBT 200V 2A SOD123FL; Manufacturer: ON Semiconductor; Type: Standard; Current Reverse Leakage @ Vr: 500nA @ 200V; Reverse Recovery Time (trr): 50ns; Voltage Forward (Vf): 1.05V @ 2A; Part Number: NHP220SFT3G; PartId: 29162; Supplier 1: Digi-Key; Supplier Part Number 1: NHP220SFT3GOSCT-ND; ComponentLink1Description: Datasheet; ComponentLink1URL: http://www.onsemi.com/pub_link/Collateral/NHP220SF-D.PDF; ComponentLink2Description: Digi-Key Listing; ComponentLink2URL: https://www.digikey.com/product-detail/en/on-semiconductor/NHP220SFT3G/NHP220SFT3GOSCT-ND/5801747; Junction Operating Temperature: -65C ~ 175C; Price: 0.39; Device Package: SOD-123F; Voltage DC Reverse (Vr): 200V; Current Rectified: 2A
footprint SOD123F
pins: 1, 2

## NRVB1H100SFT3G
designator D?
DIODE SCHOTTKY 100V 1A SOD123; Manufacturer: ON Semiconductor; Current Reverse Leakage @ Vr: 40uA @ 100V; Voltage Forward (Vf): 760mV @ 1A; Part Number: NRVB1H100SFT3G; PartId: 29319; Supplier 1: Digi-Key; Supplier Part Number 1: NRVB1H100SFT3GOSCT-ND; ComponentLink1Description: Datasheet; ComponentLink1URL: http://www.onsemi.com/pub_link/Collateral/MBR1H100SF-D.PDF; ComponentLink2Description: Digi-Key Listing; ComponentLink2URL: https://www.digikey.com/product-detail/en/on-semiconductor/NRVB1H100SFT3G/NRVB1H100SFT3GOSCT-ND/5969072; Junction Operating Temperature: -65C ~ 175C; Price: 0.93; Type: Schottky; Device Package: SOD-123F; Voltage DC Reverse (Vr): 100V; Current Rectified: 1A
footprint SOD123F
pins: 1, 2

## NRVB130T1G
designator D?
DIODE SCHOTTKY 30V 1A SOD123; Manufacturer: ON Semiconductor; Current Reverse Leakage @ Vr: 60uA @ 30V; Voltage Forward (Vf): 470mV @ 1A; Part Number: NRVB130T1G; PartId: 29437; Supplier 1: Digi-Key; Supplier Part Number 1: NRVB130T1GOSCT-ND; ComponentLink1Description: Datasheet; ComponentLink1URL: http://www.onsemi.com/pub_link/Collateral/MBR130T1-D.PDF; ComponentLink2Description: Digi-Key Listing; ComponentLink2URL: https://www.digikey.com/product-detail/en/on-semiconductor/NRVB130T1G/NRVB130T1GOSCT-ND/5213347; Junction Operating Temperature: -55C ~ 150C; Price: 0.43; Type: Schottky; Device Package: SOD-123; Voltage DC Reverse (Vr): 30V; Current Rectified: 1A
footprint SOD-123
pins: 1, 2

## NRVB140SFT1G
designator D?
DIODE SCHOTTKY 40V 1A SOD123FL; Manufacturer: ON Semiconductor; Current Reverse Leakage @ Vr: 500uA @ 40V; Voltage Forward (Vf): 550mV @ 1A; Part Number: NRVB140SFT1G; PartId: 29247; Supplier 1: Digi-Key; Supplier Part Number 1: NRVB140SFT1GOSCT-ND; ComponentLink1Description: Datasheet; ComponentLink1URL: http://www.onsemi.com/pub_link/Collateral/MBR140SFT1-D.PDF; ComponentLink2Description: Digi-Key Listing; ComponentLink2URL: https://www.digikey.com/product-detail/en/on-semiconductor/NRVB140SFT1G/NRVB140SFT1GOSCT-ND/5213348; Junction Operating Temperature: -55C ~ 125C; Price: 0.5; Type: Schottky; Device Package: SOD-123F; Voltage DC Reverse (Vr): 40V; Current Rectified: 1A
footprint SOD123F
pins: 1, 2

## NRVB0540T1G
designator D?
DIODE SCHOTTKY 40V 500MA SOD123; Manufacturer: ON Semiconductor; Current Reverse Leakage @ Vr: 20uA @ 40V; Voltage Forward (Vf): 510mV @ 500mA; Part Number: NRVB0540T1G; PartId: 29396; Supplier 1: Digi-Key; Supplier Part Number 1: NRVB0540T1GOSCT-ND; ComponentLink1Description: Datasheet; ComponentLink1URL: http://www.onsemi.com/pub_link/Collateral/MBR0540T1-D.PDF; ComponentLink2Description: Digi-Key Listing; ComponentLink2URL: https://www.digikey.com/product-detail/en/on-semiconductor/NRVB0540T1G/NRVB0540T1GOSCT-ND/5213346; Junction Operating Temperature: -55C ~ 150C; Price: 0.39; Type: Schottky; Device Package: SOD-123; Voltage DC Reverse (Vr): 40V; Current Rectified: 500mA
footprint SOD-123
pins: 1, 2

## NRVBS360T3G
designator D?
DIODE SCHOTTKY 60V 3A SMC; Manufacturer: ON Semiconductor; Current Reverse Leakage @ Vr: 30uA @ 60V; Voltage Forward (Vf): 630mV @ 3A; Part Number: NRVBS360T3G; PartId: 27705; Supplier 1: Digi-Key; Supplier Part Number 1: NRVBS360T3GOSCT-ND; ComponentLink1Description: Datasheet; ComponentLink1URL: http://www.onsemi.com/pub/Collateral/MBRS360T3-D.PDF; ComponentLink2Description: Digi-Key Listing; ComponentLink2URL: https://www.digikey.com/product-detail/en/on-semiconductor/NRVBS360T3G/NRVBS360T3GOSCT-ND/4331852; Junction Operating Temperature: -65C ~ 175C; Price: 0.92; Type: Schottky; Device Package: DO-214AB, SMC; Voltage DC Reverse (Vr): 60V; Current Rectified: 3A
footprint ST DO214AB SMC
pins: 1, 2

## NRVBS540T3G
designator D?
DIODE SCHOTTKY 40V 5A SMC; Manufacturer: ON Semiconductor; Current Reverse Leakage @ Vr: 300uA @ 40V; Voltage Forward (Vf): 500mV @ 5A; Part Number: NRVBS540T3G; PartId: 27907; Supplier 1: Digi-Key; Supplier Part Number 1: NRVBS540T3GOSCT-ND; ComponentLink1Description: Datasheet; ComponentLink1URL: http://www.onsemi.com/pub/Collateral/MBRS540T3-D.PDF; ComponentLink2Description: Digi-Key Listing; ComponentLink2URL: https://www.digikey.com/product-detail/en/on-semiconductor/NRVBS540T3G/NRVBS540T3GOSCT-ND/5969094; Junction Operating Temperature: -65C ~ 150C; Price: 0.76; Type: Schottky; Device Package: DO-214AB, SMC; Voltage DC Reverse (Vr): 40V; Current Rectified: 5A
footprint ST DO214AB SMC
pins: 1, 2

## NRVBS3100T3G
designator D?
DIODE SCHOTTKY 100V 3A SMC; Manufacturer: ON Semiconductor; Current Reverse Leakage @ Vr: 50uA @ 100V; Voltage Forward (Vf): 790mV @ 3A; Part Number: NRVBS3100T3G; PartId: 27871; Supplier 1: Digi-Key; Supplier Part Number 1: NRVBS3100T3GOSCT-ND; ComponentLink1Description: Datasheet; ComponentLink1URL: http://www.onsemi.com/pub/Collateral/MBRS3100T3-D.PDF; ComponentLink2Description: Digi-Key Listing; ComponentLink2URL: https://www.digikey.com/product-detail/en/on-semiconductor/NRVBS3100T3G/NRVBS3100T3GOSCT-ND/3487455; Junction Operating Temperature: -65C ~ 175C; Price: 0.9; Type: Schottky; Device Package: DO-214AB, SMC; Voltage DC Reverse (Vr): 100V; Current Rectified: 3A
footprint ST DO214AB SMC
pins: 1, 2

## NRVBS3201T3G
designator D?
DIODE SCHOTTKY 200V 3A SMC; Manufacturer: ON Semiconductor; Current Reverse Leakage @ Vr: 1mA @ 200V; Reverse Recovery Time (trr): 35ns; Voltage Forward (Vf): 840mV @ 3A; Part Number: NRVBS3201T3G; PartId: 27873; Supplier 1: Digi-Key; Supplier Part Number 1: NRVBS3201T3GOSCT-ND; ComponentLink1Description: Datasheet; ComponentLink1URL: http://www.onsemi.com/pub_link/Collateral/MBRS3201T3-D.PDF; ComponentLink2Description: Digi-Key Listing; ComponentLink2URL: https://www.digikey.com/product-detail/en/on-semiconductor/NRVBS3201T3G/NRVBS3201T3GOSCT-ND/5969091; Junction Operating Temperature: -55C ~ 150C; Price: 0.92; Type: Schottky; Device Package: DO-214AB, SMC; Voltage DC Reverse (Vr): 200V; Current Rectified: 3A
footprint ST DO214AB SMC
pins: 1, 2

## NRVTS245ESFT1G
designator D?
DIODE SCHOTTKY 45V 2A SOD123FL; Manufacturer: ON Semiconductor; Current Reverse Leakage @ Vr: 75uA @ 45V; Voltage Forward (Vf): 650mV @ 2A; Part Number: NRVTS245ESFT1G; PartId: 29336; Supplier 1: Digi-Key; Supplier Part Number 1: NRVTS245ESFT1GOSCT-ND; ComponentLink1Description: Datasheet; ComponentLink1URL: http://www.onsemi.com/pub/Collateral/NRVTS245ESF-D.PDF; ComponentLink2Description: Digi-Key Listing; ComponentLink2URL: https://www.digikey.com/product-detail/en/on-semiconductor/NRVTS245ESFT1G/NRVTS245ESFT1GOSCT-ND/5131387; Junction Operating Temperature: -65C ~ 175C; Price: 0.34; Type: Schottky; Device Package: SOD-123F; Voltage DC Reverse (Vr): 45V; Current Rectified: 2A
footprint SOD123F
pins: 1, 2

## NRVTS260ESFT1G
designator D?
DIODE SCHOTTKY 60V 2A SOD123FL; Manufacturer: ON Semiconductor; Current Reverse Leakage @ Vr: 12uA @ 60V; Voltage Forward (Vf): 650mV @ 2A; Part Number: NRVTS260ESFT1G; PartId: 29186; Supplier 1: Digi-Key; Supplier Part Number 1: NRVTS260ESFT1GOSCT-ND; ComponentLink1Description: Datasheet; ComponentLink1URL: http://www.onsemi.com/pub/Collateral/NTS260ESF-D.PDF; ComponentLink2Description: Digi-Key Listing; ComponentLink2URL: https://www.digikey.com/product-detail/en/on-semiconductor/NRVTS260ESFT1G/NRVTS260ESFT1GOSCT-ND/5131388; Junction Operating Temperature: -65C ~ 175C; Price: 0.35; Type: Schottky; Device Package: SOD-123F; Voltage DC Reverse (Vr): 60V; Current Rectified: 2A
footprint SOD123F
pins: 1, 2